# Altium schematic symbol library MAX1551.SchLib: 1 symbol
Pins are listed as number, name and electrical type; pins without a type are passive.

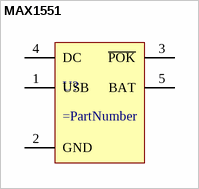
[diagram p0: symbol MAX1551]

## MAX1551
designator U?
pins: 1 USB, 2 GND, 3 ~{POK}, 4 DC, 5 BAT